# EAGLE library part 61206021621 (library Wire_to_Board_Connectors_rev15d)
WR-BHD 2.54mm Male Box Header, 60 Pins=>Code : Con_WTB_BHD_2.54_Male_THT_WS_61206021621 <http://katalog.we-online.de/media/thumbs2/eican/thb_Con_WTB_BHD_2.54_Male_THT_WS_6120xx21621_pf2.jpg> Details see: http://katalog.we-online.de/en/em/612_0xx_216_21 Created 2014-06-04, Karrer Zheng 2014 (C) Würth Elektronik
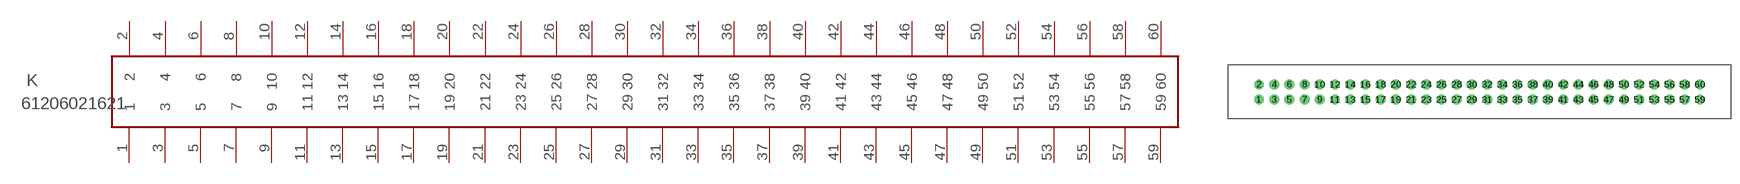
[diagram p203: symbol with the pads of 61206021621; footprint 61206021621]

Designator prefix K

## 61206021621  [61206021621]
1  1  pas
2  2  pas
3  3  pas
4  4  pas
5  5  pas
6  6  pas
7  7  pas
8  8  pas
9  9  pas
10  10  pas
11  11  pas
12  12  pas
13  13  pas
14  14  pas
15  15  pas
16  16  pas
17  17  pas
18  18  pas
19  19  pas
20  20  pas
21  21  pas
22  22  pas
23  23  pas
24  24  pas
25  25  pas
26  26  pas
27  27  pas
28  28  pas
29  29  pas
30  30  pas
31  31  pas
32  32  pas
33  33  pas
34  34  pas
35  35  pas
36  36  pas
37  37  pas
38  38  pas
39  39  pas
40  40  pas
41  41  pas
42  42  pas
43  43  pas
44  44  pas
45  45  pas
46  46  pas
47  47  pas
48  48  pas
49  49  pas
50  50  pas
51  51  pas
52  52  pas
53  53  pas
54  54  pas
55  55  pas
56  56  pas
57  57  pas
58  58  pas
59  59  pas
60  60  pas

## Footprint 61206021621 (pad centres in mm)
WR-BHD 2.54mm Male Box Header, 60 Pins
drill 1.1: 1 -2.54,-1.27; 2 -2.54,1.27; 3 0,-1.27; 4 0,1.27; 5 2.54,-1.27; 6 2.54,1.27; 7 5.08,-1.27; 8 5.08,1.27; 9 7.62,-1.27; 10 7.62,1.27; 11 10.16,-1.27; 12 10.16,1.27; 13 12.7,-1.27; 14 12.7,1.27; 15 15.24,-1.27; 16 15.24,1.27; 17 17.78,-1.27; 18 17.78,1.27; 19 20.32,-1.27; 20 20.32,1.27; 21 22.86,-1.27; 22 22.86,1.27; 23 25.4,-1.27; 24 25.4,1.27; 25 27.94,-1.27; 26 27.94,1.27; 27 30.48,-1.27; 28 30.48,1.27; 29 33.02,-1.27; 30 33.02,1.27; 31 35.56,-1.27; 32 35.56,1.27; 33 38.1,-1.27; 34 38.1,1.27; 35 40.64,-1.27; 36 40.64,1.27; 37 43.18,-1.27; 38 43.18,1.27; 39 45.72,-1.27; 40 45.72,1.27; 41 48.26,-1.27; 42 48.26,1.27; 43 50.8,-1.27; 44 50.8,1.27; 45 53.34,-1.27; 46 53.34,1.27; 47 55.88,-1.27; 48 55.88,1.27; 49 58.42,-1.27; 50 58.42,1.27; 51 60.96,-1.27; 52 60.96,1.27; 53 63.5,-1.27; 54 63.5,1.27; 55 66.04,-1.27; 56 66.04,1.27; 57 68.58,-1.27; 58 68.58,1.27; 59 71.12,-1.27; 60 71.12,1.27